# Altium schematic symbol library GCM1885C2A560JA16D.SchLib: 1 symbol
Pins are listed as number, name and electrical type; pins without a type are passive.

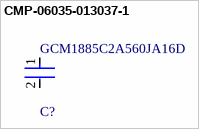
[diagram p0: symbol CMP-06035-013037-1]

## CMP-06035-013037-1
designator C?, comment GCM1885C2A560JA16D
Ceramic Capacitor for Automotive 56pF  ±5% 100VDC C0G 0603 Paper T/R; Voltage Rating: 100V; Max Operating Temperature: 125°C; Packaging: Tape and Reel; Depth: 0.8mm; Mount: Surface Mount; Case Code (Imperial): 0603; Length: 1.6mm; Case Code (Metric): 1608; Capacitance: 56pF; Case/Package: 0603; Width: 0.8mm; Termination: SMD/SMT; Dielectric: C0G; Radiation Hardening: No; Tolerance: 5%; Package Quantity: 4000; Thickness: 0.035inch; Ratings: AEC-Q200; Min Operating Temperature: -25°C; Height: 0.8mm; Voltage Rating (DC): 100V
footprint FP-GCM188-0_1-MFG
footprint FP-GCM188-0_1-IPC_B
footprint FP-GCM188-0_1-IPC_C
footprint FP-GCM188-0_1-IPC_A
pins: 1, 2